# Altium schematic symbol library PAM2401.SchLib: 1 symbol
Pins are listed as number, name and electrical type; pins without a type are passive.

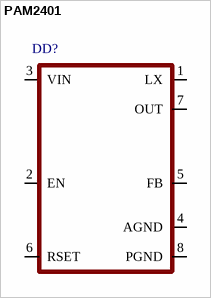
[diagram p0: symbol PAM2401]

## PAM2401
designator DD?
pins: 1 LX, 2 EN, 3 VIN, 4 AGND, 5 FB, 6 RSET, 7 OUT, 8 PGND